# Altium footprint library 000.000.001 rev.1.PcbLib: 25 footprints (part 2 of 2)
Each footprint in its own frame and in the unit in brackets; x right, y up, seen from the top. Pads: shape width x height; smd on the part's side, far side on the other; paste and mask are expansions set on the pad; w line width, h text height; cw(c..) or ccw(c..) is an arc to the next point about the centre after c.
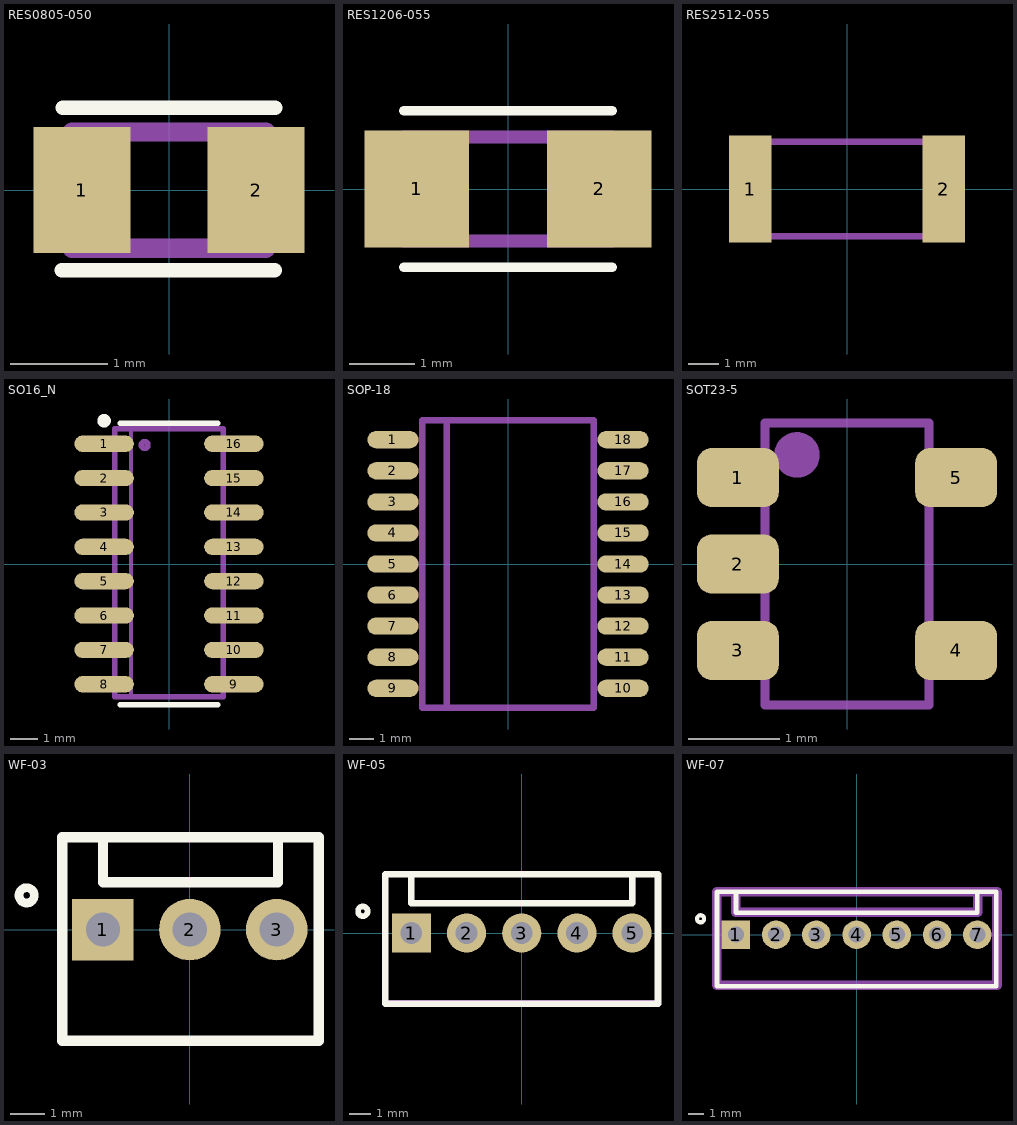
[diagram p1: the footprints below, top view; thin cyan lines are the x and y axes]

## RES0805-050 [mm] "Chip Resistor, Body 2.0x1.2mm, IPC High Density"
height 0.5
pads (2):
  rect 1x1.3 smd: 1(-0.9,0) 2(0.9,0)
Top Overlay:
  lines w0.15: -1.109,-0.828 1.091,-0.828 ; -1.1,0.85 1.1,0.85
Top Assembly:
  lines w0.2: -1,-0.6 -1,-0.6 ; -1,-0.6 -1,0.6 ; -1,-0.6 1,-0.6 ; -1,0.6 1,0.6 1,-0.6 ; -1,0.6 -1,0.6 ; 1,-0.6 1,-0.6
  text ".Designator" at -0.05,0.975 h1.8
3D body "RES0805-050.stp": height 0.42, standoff -0.08, extent -1,-0.625 1,0.625

## RES1206-055 [mm] "Chip resistor"
height 0.55
pads (2):
  rect 1.6x1.8 smd: 1(-1.4,0) 2(1.4,0)
Top Overlay:
  lines w0.15: -1.6,-1.2 1.6,-1.2 ; -1.6,1.2 1.6,1.2
Top Assembly:
  lines w0.2: -1.6,-0.8 -1.6,0.8 1.6,0.8 1.6,-0.8 -1.6,-0.8
  text ".Designator" at -0.275,1.45 h1.8
3D body "RES1206-055.stp": height 0.47, standoff -0.08, extent -1.55,-0.8 1.55,0.8

## RES2512-055 [mm] "Resistor"
height 0.55
pads (2):
  rect 1.4x3.5 smd: 1(-3.175,0) 2(3.175,0)
Top Assembly:
  lines w0.2: -3.175,-1.55 -3.175,1.55 3.175,1.55 3.175,-1.55 -3.175,-1.55
  text ".Designator" at -0.4,2.1 h1.8
3D body "User Library-R2010-1.step": height 0.47, standoff -0.08, extent -2.5,-1.26 2.5,1.26
3D body "User Library-Chip Resistor_2512 (6432).step": height 0.57, standoff 0, extent -3.175,-1.601 3.175,1.601

## SO16_N [mm] "SOIC, 16-Leads, Body 9.9x3.9mm, Pitch 1.27mm, IPC Medium Density"
height 1.75
pads (16):
  oval 2.2x0.6 smd: 1(-2.4,4.445) 2(-2.4,3.175) 3(-2.4,1.905) 4(-2.4,0.635) 5(-2.4,-0.635) 6(-2.4,-1.905) 7(-2.4,-3.175) 8(-2.4,-4.445) 9(2.4,-4.445) 10(2.4,-3.175) 11(2.4,-1.905) 12(2.4,-0.635) 13(2.4,0.635) 14(2.4,1.905) 15(2.4,3.175) 16(2.4,4.445)
Top Overlay:
  circle w0.25: c-2.4,5.295 r0.125
  lines w0.2: -1.8,-5.2 1.8,-5.2 ; -1.8,5.2 1.8,5.2
Top Assembly:
  circle w0.2: c-0.9,4.4 r0.125
  lines w0.15: -1.4,-4.9 -1.4,5
  lines w0.2: -2,4.9 -2,-4.9 2,-4.9 2,5 -2,5
  text ".Designator" at -0.4,5.7 h1.8
3D body "User Library-SO-16N.STEP": height 1.54, standoff -0.08, extent -3,-4.965 3,4.965

## SOP-18 [mm]
height 2.45
pads (18):
  oval 2.1x0.7 smd: 1(-4.7,5.08) 2(-4.7,3.81) 3(-4.7,2.54) 4(-4.7,1.27) 5(-4.7,0) 6(-4.7,-1.27) 7(-4.7,-2.54) 8(-4.7,-3.81) 9(-4.7,-5.08) 10(4.7,-5.08) 11(4.7,-3.81) 12(4.7,-2.54) 13(4.7,-1.27) 14(4.7,0) 15(4.7,1.27) 16(4.7,2.54) 17(4.7,3.81) 18(4.7,5.08)
Top Assembly:
  lines w0.254: -2.5,-5.875 -2.5,5.875 ; -3.5,5.875 -3.5,5.875 ; -3.5,5.875 3.5,5.875 3.5,-5.875 ; -3.5,5.875 -3.5,-5.875 3.5,-5.875 ; 3.5,-5.875 3.5,-5.875
3D body "User Library-SOIC-18-300.STEP": height 2.57, standoff -0.03, extent -5.3,-5.875 5.3,5.875

## SOT23-5 [mm]
height 1.45
pads (5):
  rrect50% 0.9x0.65 smd: 1(-1.2,0.95) 2(-1.2,0) 3(-1.2,-0.95) 4(1.2,-0.95) 5(1.2,0.95)
Top Assembly:
  circle w0.25: c-0.55,1.2 r0.125
  lines w0.1: -0.9,-1.55 0.9,-1.55 0.9,1.55 -0.9,1.55 -0.9,-1.55
  text ".Designator" at -0.2,1.9 h1.8
3D body "User Library-SOT23-5-2.step": height 1.37, standoff -0.08, extent -1.45,-1.45 1.35,1.45

## WF-03 [mm] "2.54"
height 11
pads (3):
  rect 1.8x1.8 hole 1: 1(-2.54,0)
  round 1.8 hole 1: 2(0,0) 3(2.54,0)
Top Overlay:
  circle w0.254: c-4.77,1 r0.224
  lines w0.3: -2.54,2.7 -2.54,1.38 2.58,1.38 2.58,2.6 ; -3.73,-3.25 3.77,-3.25 3.77,2.7 -3.73,2.7 -3.73,-3.25
Top Assembly:
  circle w0.254: c-2.6,0 r0.237
  lines w0.25: -2.525,2.7 -2.525,1.405 -2.5,1.38 2.575,1.38 2.575,2.7 ; -3.73,-3.245 -3.725,-3.25 3.75,-3.25 3.77,-3.23 3.77,2.695 3.775,2.7 -3.73,2.7 -3.73,-3.245
3D body "User Library-WF-3-1.STEP": height 11.62, standoff -2.78, extent -3.73,-3.2 3.77,2.6

## WF-05 [mm] "2.54"
height 11
pads (5):
  rect 1.8x1.8 hole 1: 1(-5.08,0)
  round 1.8 hole 1: 2(-2.54,0) 3(0,0) 4(2.54,0) 5(5.08,0)
Top Overlay:
  circle w0.254: c-7.31,1 r0.224
  lines w0.3: -5.08,2.7 -5.08,1.38 5.08,1.38 5.08,2.7 ; 6.223,-3.25 -6.27,-3.25 -6.27,2.7 6.223,2.7 ; 6.27,-3.25 6.27,2.7
Top Assembly:
  circle w0.254: c-5.2,0 r0.237
  lines w0.25: -5.1,2.7 -5.1,1.4 5.1,1.4 5.1,2.7 ; -6.27,-3.2 -6.27,2.7 6.27,2.7 6.27,2.67 6.27,-3.2 -6.27,-3.2
3D body "User Library-WF-5.step": height 11.64, standoff -2.76, extent -6.35,-3.175 6.35,2.625

## WF-07 [mm] "2.54"
height 11
pads (7):
  rect 1.8x1.8 hole 1: 1(-7.62,0)
  round 1.8 hole 1: 2(-5.08,0) 3(-2.54,0) 4(0,0) 5(2.54,0) 6(5.08,0) 7(7.62,0)
Top Overlay:
  circle w0.254: c-9.85,1 r0.224
  lines w0.3: -7.62,2.7 -7.62,1.38 7.62,1.38 7.62,2.7 ; -8.81,-3.25 8.81,-3.25 8.81,2.7 -8.81,2.7 -8.81,-3.25
Top Assembly:
  circle w0.6: c-7.64,0 r0.237
  lines w0.6: -7.64,2.7 -7.62,2.7 -7.62,1.4 7.66,1.4 7.66,2.7 ; -8.84,-3.2 8.86,-3.2 8.86,2.7 -8.84,2.7 -8.84,-3.2
3D body "User Library-DS1070-7 (WF-7 CONNFLY).step": height 11.48, standoff -3.22, extent -8.89,-3.5 8.89,2.4